# Altium schematic symbol library CAP_POL_LOW_IMP.SchLib: 1 symbol
Pins are listed as number, name and electrical type; pins without a type are passive.

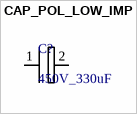
[diagram p0: symbol CAP_POL_LOW_IMP]

## CAP_POL_LOW_IMP
designator C?, comment 450V_330uF
footprint CAP_450V_470uF
footprint CAP_450V_330uF
footprint 500V_470uF
pins: 1, 2